# EAGLE library part NRF24L01 (library sensors)
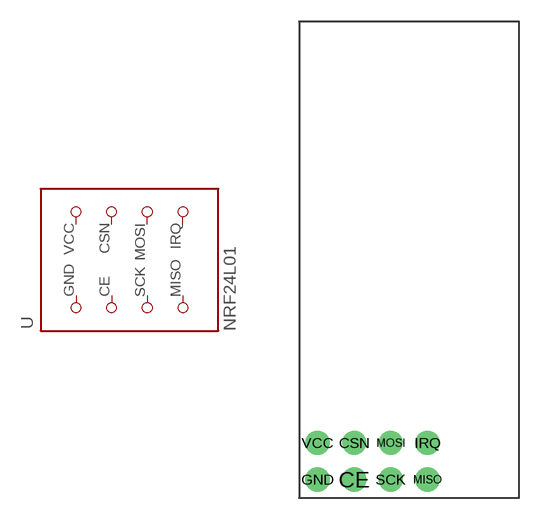
[diagram p0: symbol with the pads of NRF24L01; footprint NRF24L01]

Designator prefix -

## NRF24L01  [NRF24L01]
CE  CE  pas
CSN  CSN  pas
GND  GND  pas
IRQ  IRQ  pas
MISO  MISO  pas
MOSI  MOSI  pas
SCK  SCK  pas
VCC  VCC  pas

## Footprint NRF24L01 (pad centres in mm)
drill 0.8 pad 1.676: CE -3.81,-15.24; CSN -3.81,-12.7; GND -6.35,-15.24; IRQ 1.27,-12.7; MISO 1.27,-15.24; MOSI -1.27,-12.7; SCK -1.27,-15.24; VCC -6.35,-12.7